# Altium schematic symbol library PiVO.SchLib: 1 symbol
Pins are listed as number, name and electrical type; pins without a type are passive.

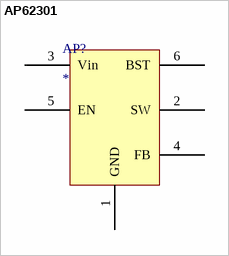
[diagram p0: symbol AP62301]

## AP62301
designator AP?
footprint SOT95P280X100-6L (SOT23, 6-Leads, Body 2.90x2.80mm, Pitch 0.95mm, IPC High Density)
pins: 1 GND, 2 SW, 3 Vin, 4 FB, 5 EN, 6 BST